# EAGLE library part TPS56A37RPAR (library TPS56A37RPAR)
Switching Voltage Regulators 4.5V to 28V input, 10A synchronous buck converter Source: Datasheet <https://www.ti.com/lit/ds/symlink/tps56a37.pdf?ts=1708310049261&ref_url=https%3A%2F%2Fwww.ti.com%2Fproduct%2FTPS56A37>
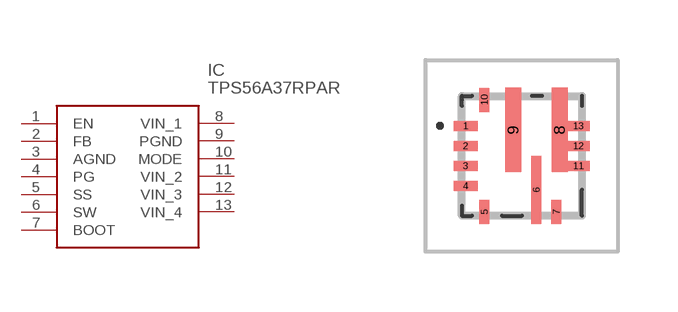
[diagram p0: symbol with the pads of TPS56A37RPAR; footprint TPS56A37RPAR]

Designator prefix IC

## TPS56A37RPAR (Description: Switching Voltage Regulators 4.5V to 28V input, 10A synchronous buck converter; Height: 1mm; Manufacturer_Name: Texas Instruments; Manufacturer_Part_Number: TPS56A37RPAR; Mouser_Part_Number: 595-TPS56A37RPAR; Mouser_Price-Stock: https://www.mouser.co.uk/ProductDetail/Texas-Instruments/TPS56A37RPAR?qs=dbcCsuKDzFV3BmG4b9YeGQ%3D%3D)  [TPS56A37RPAR]
1  EN
2  FB
3  AGND
4  PG
5  SS
6  SW
7  BOOT
8  VIN_1
9  PGND
10  MODE
11  VIN_2
12  VIN_3
13  VIN_4

## Footprint TPS56A37RPAR (pad centres in mm)
RPA0010A
smd 0.6 x 0.25: 1 -1.41,0.75; 2 -1.41,0.25; 3 -1.41,-0.25; 4 -1.41,-0.75
smd 0.25 x 0.6: 5 -0.94,-1.4; 7 0.86,-1.4; 10 -0.94,1.4
smd 0.25 x 1.7: 6 0.36,-0.85
smd 0.4 x 2.1: 8 0.94,0.65; 9 -0.22,0.65
smd 0.56 x 0.25: 11 1.41,-0.25; 12 1.41,0.25; 13 1.41,0.75